# EAGLE library part LPC43S67JBD208E (library sjg-pixl)
ARM Microcontrollers - MCU 32-bit ARM Cortex-M4/M0 MCU Source: Datasheet <http://www.nxp.com/docs/en/data-sheet/LPC43S6X.pdf>
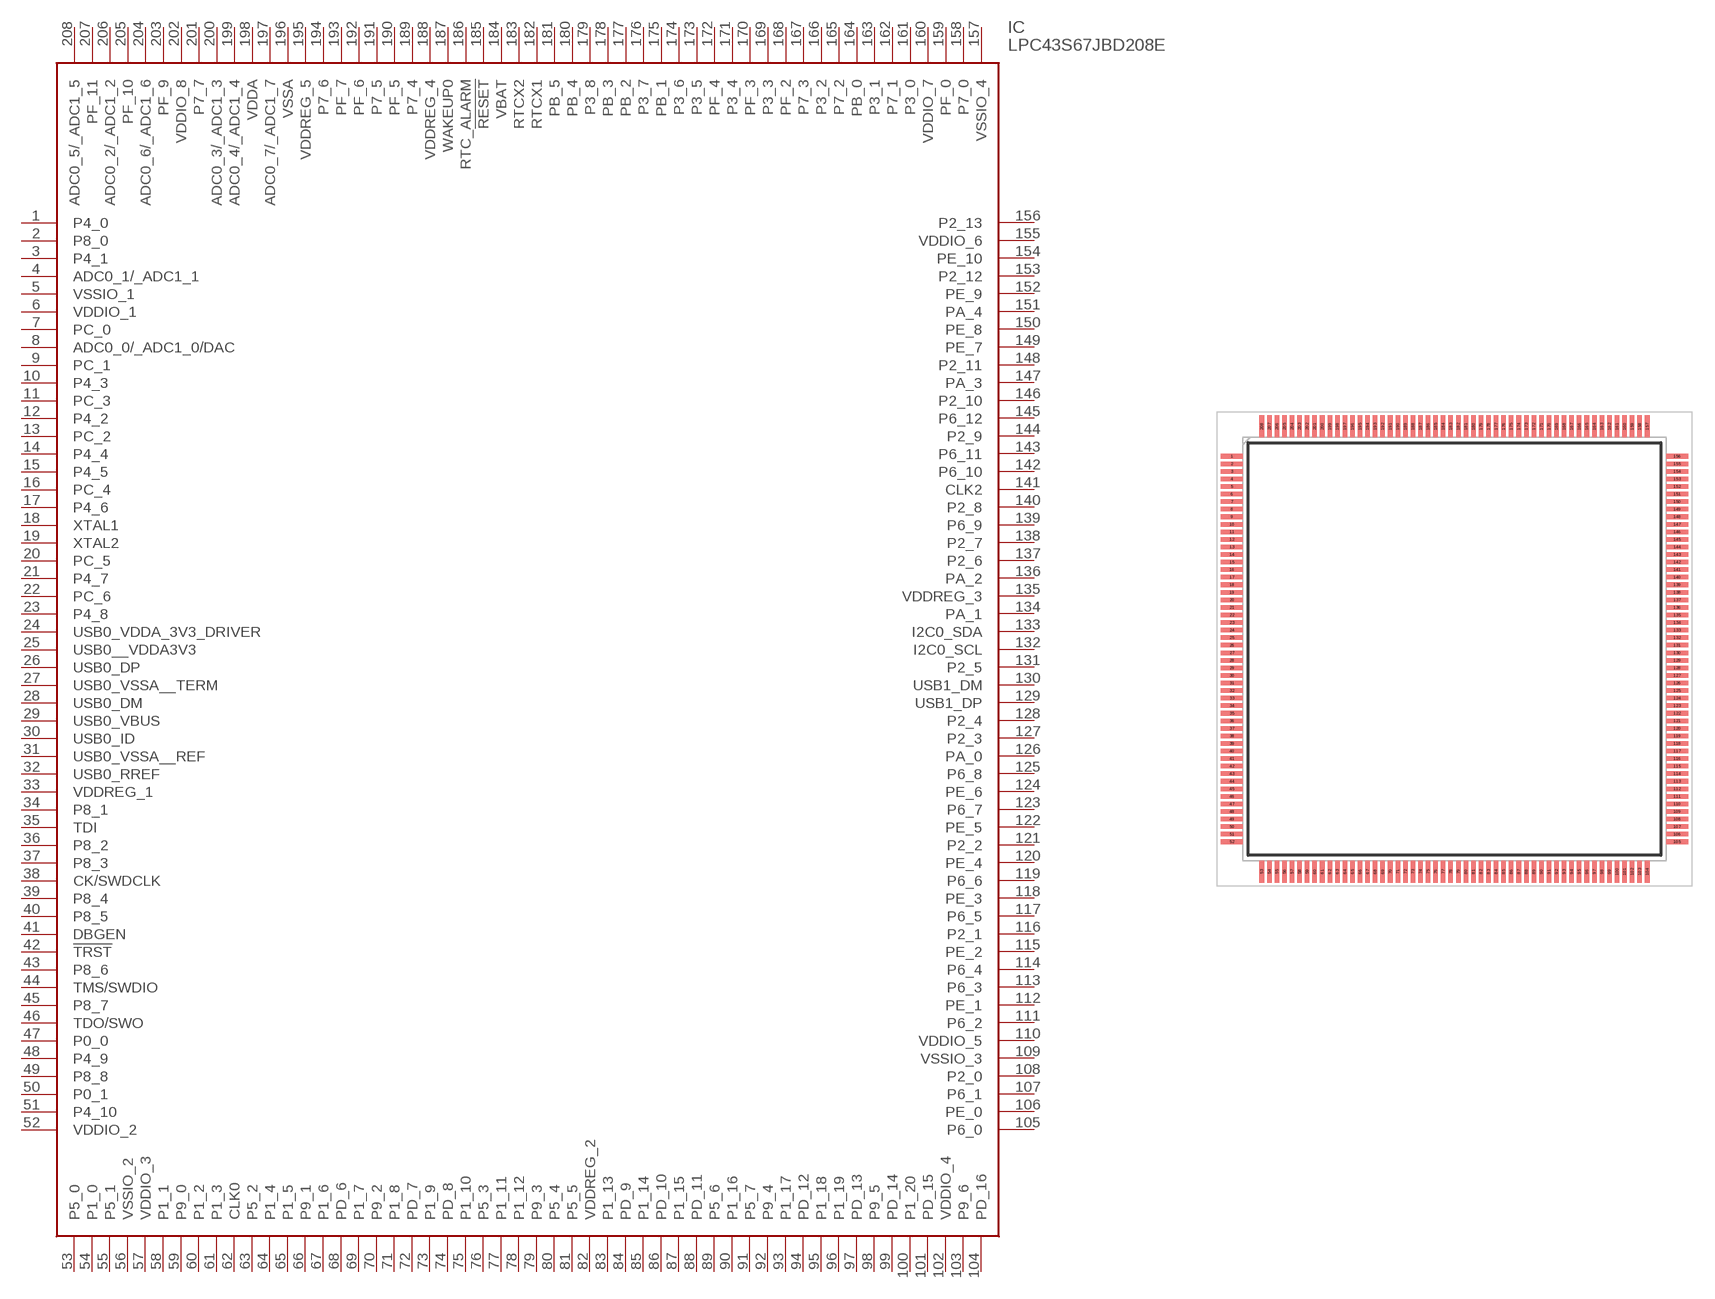
[diagram p15: symbol with the pads of QFP50P3000X3000X160-208N; footprint QFP50P3000X3000X160-208N]

Designator prefix IC

## LPC43S67JBD208E (ARROW_PART_NUMBER: LPC43S67JBD208E; ARROW_PRICE-STOCK: https://www.arrow.com/en/products/lpc43s67jbd208e/nxp-semiconductors; DESCRIPTION: ARM Microcontrollers - MCU 32-bit ARM Cortex-M4/M0 MCU; HEIGHT: 1.6mm; MANUFACTURER_NAME: NXP; MANUFACTURER_PART_NUMBER: LPC43S67JBD208E; MOUSER_PART_NUMBER: 771-LPC43S67JBD208E; MOUSER_PRICE-STOCK: https://www.mouser.com/Search/Refine.aspx?Keyword=771-LPC43S67JBD208E)  [QFP50P3000X3000X160-208N]
1  P4_0
2  P8_0
3  P4_1
4  ADC0_1/_ADC1_1
5  VSSIO_1
6  VDDIO_1
7  PC_0
8  ADC0_0/_ADC1_0/DAC
9  PC_1
10  P4_3
11  PC_3
12  P4_2
13  PC_2
14  P4_4
15  P4_5
16  PC_4
17  P4_6
18  XTAL1
19  XTAL2
20  PC_5
21  P4_7
22  PC_6
23  P4_8
24  USB0_VDDA_3V3_DRIVER
25  USB0__VDDA3V3
26  USB0_DP
27  USB0_VSSA__TERM
28  USB0_DM
29  USB0_VBUS
30  USB0_ID
31  USB0_VSSA__REF
32  USB0_RREF
33  VDDREG_1
34  P8_1
35  TDI
36  P8_2
37  P8_3
38  CK/SWDCLK
39  P8_4
40  P8_5
41  DBGEN
42  !TRST
43  P8_6
44  TMS/SWDIO
45  P8_7
46  TDO/SWO
47  P0_0
48  P4_9
49  P8_8
50  P0_1
51  P4_10
52  VDDIO_2
53  P5_0
54  P1_0
55  P5_1
56  VSSIO_2
57  VDDIO_3
58  P1_1
59  P9_0
60  P1_2
61  P1_3
62  CLK0
63  P5_2
64  P1_4
65  P1_5
66  P9_1
67  P1_6
68  PD_6
69  P1_7
70  P9_2
71  P1_8
72  PD_7
73  P1_9
74  PD_8
75  P1_10
76  P5_3
77  P1_11
78  P1_12
79  P9_3
80  P5_4
81  P5_5
82  VDDREG_2
83  P1_13
84  PD_9
85  P1_14
86  PD_10
87  P1_15
88  PD_11
89  P5_6
90  P1_16
91  P5_7
92  P9_4
93  P1_17
94  PD_12
95  P1_18
96  P1_19
97  PD_13
98  P9_5
99  PD_14
100  P1_20
101  PD_15
102  VDDIO_4
103  P9_6
104  PD_16
105  P6_0
106  PE_0
107  P6_1
108  P2_0
109  VSSIO_3
110  VDDIO_5
111  P6_2
112  PE_1
113  P6_3
114  P6_4
115  PE_2
116  P2_1
117  P6_5
118  PE_3
119  P6_6
120  PE_4
121  P2_2
122  PE_5
123  P6_7
124  PE_6
125  P6_8
126  PA_0
127  P2_3
128  P2_4
129  USB1_DP
130  USB1_DM
131  P2_5
132  I2C0_SCL
133  I2C0_SDA
134  PA_1
135  VDDREG_3
136  PA_2
137  P2_6
138  P2_7
139  P6_9
140  P2_8
141  CLK2
142  P6_10
143  P6_11
144  P2_9
145  P6_12
146  P2_10
147  PA_3
148  P2_11
149  PE_7
150  PE_8
151  PA_4
152  PE_9
153  P2_12
154  PE_10
155  VDDIO_6
156  P2_13
157  VSSIO_4
158  P7_0
159  PF_0
160  VDDIO_7
161  P3_0
162  P7_1
163  P3_1
164  PB_0
165  P7_2
166  P3_2
167  P7_3
168  PF_2
169  P3_3
170  PF_3
171  P3_4
172  PF_4
173  P3_5
174  P3_6
175  PB_1
176  P3_7
177  PB_2
178  PB_3
179  P3_8
180  PB_4
181  PB_5
182  RTCX1
183  RTCX2
184  VBAT
185  !RESET
186  RTC_ALARM
187  WAKEUP0
188  VDDREG_4
189  P7_4
190  PF_5
191  P7_5
192  PF_6
193  PF_7
194  P7_6
195  VDDREG_5
196  VSSA
197  ADC0_7/_ADC1_7
198  VDDA
199  ADC0_4/_ADC1_4
200  ADC0_3/_ADC1_3
201  P7_7
202  VDDIO_8
203  PF_9
204  ADC0_6/_ADC1_6
205  PF_10
206  ADC0_2/_ADC1_2
207  PF_11
208  ADC0_5/_ADC1_5

## Footprint QFP50P3000X3000X160-208N (pad centres in mm)
TQFP208-SOT459-1(208-28x28x1.4mm)
smd 1.45 x 0.3: 1 -14.725,12.75; 2 -14.725,12.25; 3 -14.725,11.75; 4 -14.725,11.25; 5 -14.725,10.75; 6 -14.725,10.25; 7 -14.725,9.75; 8 -14.725,9.25; 9 -14.725,8.75; 10 -14.725,8.25; 11 -14.725,7.75; 12 -14.725,7.25; 13 -14.725,6.75; 14 -14.725,6.25; 15 -14.725,5.75; 16 -14.725,5.25; 17 -14.725,4.75; 18 -14.725,4.25; 19 -14.725,3.75; 20 -14.725,3.25; 21 -14.725,2.75; 22 -14.725,2.25; 23 -14.725,1.75; 24 -14.725,1.25; 25 -14.725,0.75; 26 -14.725,0.25; 27 -14.725,-0.25; 28 -14.725,-0.75; 29 -14.725,-1.25; 30 -14.725,-1.75; 31 -14.725,-2.25; 32 -14.725,-2.75; 33 -14.725,-3.25; 34 -14.725,-3.75; 35 -14.725,-4.25; 36 -14.725,-4.75; 37 -14.725,-5.25; 38 -14.725,-5.75; 39 -14.725,-6.25; 40 -14.725,-6.75; 41 -14.725,-7.25; 42 -14.725,-7.75; 43 -14.725,-8.25; 44 -14.725,-8.75; 45 -14.725,-9.25; 46 -14.725,-9.75; 47 -14.725,-10.25; 48 -14.725,-10.75; 49 -14.725,-11.25; 50 -14.725,-11.75; 51 -14.725,-12.25; 52 -14.725,-12.75; 105 14.725,-12.75; 106 14.725,-12.25; 107 14.725,-11.75; 108 14.725,-11.25; 109 14.725,-10.75; 110 14.725,-10.25; 111 14.725,-9.75; 112 14.725,-9.25; 113 14.725,-8.75; 114 14.725,-8.25; 115 14.725,-7.75; 116 14.725,-7.25; 117 14.725,-6.75; 118 14.725,-6.25; 119 14.725,-5.75; 120 14.725,-5.25; 121 14.725,-4.75; 122 14.725,-4.25; 123 14.725,-3.75; 124 14.725,-3.25; 125 14.725,-2.75; 126 14.725,-2.25; 127 14.725,-1.75; 128 14.725,-1.25; 129 14.725,-0.75; 130 14.725,-0.25; 131 14.725,0.25; 132 14.725,0.75; 133 14.725,1.25; 134 14.725,1.75; 135 14.725,2.25; 136 14.725,2.75; 137 14.725,3.25; 138 14.725,3.75; 139 14.725,4.25; 140 14.725,4.75; 141 14.725,5.25; 142 14.725,5.75; 143 14.725,6.25; 144 14.725,6.75; 145 14.725,7.25; 146 14.725,7.75; 147 14.725,8.25; 148 14.725,8.75; 149 14.725,9.25; 150 14.725,9.75; 151 14.725,10.25; 152 14.725,10.75; 153 14.725,11.25; 154 14.725,11.75; 155 14.725,12.25; 156 14.725,12.75
smd 0.3 x 1.45: 53 -12.75,-14.725; 54 -12.25,-14.725; 55 -11.75,-14.725; 56 -11.25,-14.725; 57 -10.75,-14.725; 58 -10.25,-14.725; 59 -9.75,-14.725; 60 -9.25,-14.725; 61 -8.75,-14.725; 62 -8.25,-14.725; 63 -7.75,-14.725; 64 -7.25,-14.725; 65 -6.75,-14.725; 66 -6.25,-14.725; 67 -5.75,-14.725; 68 -5.25,-14.725; 69 -4.75,-14.725; 70 -4.25,-14.725; 71 -3.75,-14.725; 72 -3.25,-14.725; 73 -2.75,-14.725; 74 -2.25,-14.725; 75 -1.75,-14.725; 76 -1.25,-14.725; 77 -0.75,-14.725; 78 -0.25,-14.725; 79 0.25,-14.725; 80 0.75,-14.725; 81 1.25,-14.725; 82 1.75,-14.725; 83 2.25,-14.725; 84 2.75,-14.725; 85 3.25,-14.725; 86 3.75,-14.725; 87 4.25,-14.725; 88 4.75,-14.725; 89 5.25,-14.725; 90 5.75,-14.725; 91 6.25,-14.725; 92 6.75,-14.725; 93 7.25,-14.725; 94 7.75,-14.725; 95 8.25,-14.725; 96 8.75,-14.725; 97 9.25,-14.725; 98 9.75,-14.725; 99 10.25,-14.725; 100 10.75,-14.725; 101 11.25,-14.725; 102 11.75,-14.725; 103 12.25,-14.725; 104 12.75,-14.725; 157 12.75,14.725; 158 12.25,14.725; 159 11.75,14.725; 160 11.25,14.725; 161 10.75,14.725; 162 10.25,14.725; 163 9.75,14.725; 164 9.25,14.725; 165 8.75,14.725; 166 8.25,14.725; 167 7.75,14.725; 168 7.25,14.725; 169 6.75,14.725; 170 6.25,14.725; 171 5.75,14.725; 172 5.25,14.725; 173 4.75,14.725; 174 4.25,14.725; 175 3.75,14.725; 176 3.25,14.725; 177 2.75,14.725; 178 2.25,14.725; 179 1.75,14.725; 180 1.25,14.725; 181 0.75,14.725; 182 0.25,14.725; 183 -0.25,14.725; 184 -0.75,14.725; 185 -1.25,14.725; 186 -1.75,14.725; 187 -2.25,14.725; 188 -2.75,14.725; 189 -3.25,14.725; 190 -3.75,14.725; 191 -4.25,14.725; 192 -4.75,14.725; 193 -5.25,14.725; 194 -5.75,14.725; 195 -6.25,14.725; 196 -6.75,14.725; 197 -7.25,14.725; 198 -7.75,14.725; 199 -8.25,14.725; 200 -8.75,14.725; 201 -9.25,14.725; 202 -9.75,14.725; 203 -10.25,14.725; 204 -10.75,14.725; 205 -11.25,14.725; 206 -11.75,14.725; 207 -12.25,14.725; 208 -12.75,14.725